# Altium schematic symbol library NCA9535.SchLib: 1 symbol
Pins are listed as number, name and electrical type; pins without a type are passive.

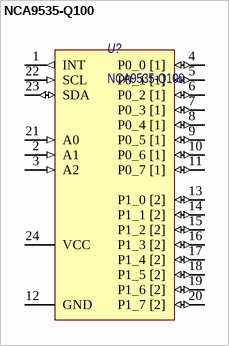
[diagram p0: symbol NCA9535-Q100]

## NCA9535-Q100
designator U?
Low-voltage 16-bit I²C and SMBus low-power I/O expander; Потребление, Вт: 1.0; Наименование: NCA9535-Q100; Назначение: Low-voltage 16-bit I²C and SMBus low-power I/O expander
footprint TSSOP-24
pins: 1 INT (out) "Interrupt output. Connect to VCC through a pull-up resistor", 2 A1 (in) "Address input 1. Connect directly to VCC or GND", 3 A2 (in) "Address input 2. Connect directly to VCC or GND", 4 P0_0 [1] (io) "Parallel port I/O. Push-pull driver. At power on, P0_0 is configured as input", 5 P0_1 [1] (io) "Parallel port I/O. Push-pull driver. At power on, P0_1 is configured as input", 6 P0_2 [1] (io) "Parallel port I/O. Push-pull driver. At power on, P0_2 is configured as input", 7 P0_3 [1] (io) "Parallel port I/O. Push-pull driver. At power on, P0_3 is configured as input", 8 P0_4 [1] (io) "Parallel port I/O. Push-pull driver. At power on, P0_4 is configured as input", 9 P0_5 [1] (io) "Parallel port I/O. Push-pull driver. At power on, P0_5 is configured as input", 10 P0_6 [1] (io) "Parallel port I/O. Push-pull driver. At power on, P0_6 is configured as input", 11 P0_7 [1] (io) "Parallel port I/O. Push-pull driver. At power on, P0_7 is configured as input", 12 GND (power) "Ground", 13 P1_0 [2] (io) "Parallel port I/O. Push-pull driver. At power on, P1_0 is configured as input", 14 P1_1 [2] (io) "Parallel port I/O. Push-pull driver. At power on, P1_1 is configured as input", 15 P1_2 [2] (io) "Parallel port I/O. Push-pull driver. At power on, P1_2 is configured as input", 16 P1_3 [2] (io) "Parallel port I/O. Push-pull driver. At power on, P1_3 is configured as input", 17 P1_4 [2] (io) "Parallel port I/O. Push-pull driver. At power on, P1_4 is configured as input", 18 P1_5 [2] (io) "Parallel port I/O. Push-pull driver. At power on, P1_5 is configured as input", 19 P1_6 [2] (io) "Parallel port I/O. Push-pull driver. At power on, P1_6 is configured as input", 20 P1_7 [2] (io) "Parallel port I/O. Push-pull driver. At power on, P1_7 is configured as input", 21 A0 (in) "Address input 0. Connect directly to VCC or GND", 22 SCL (in) "Serial clock bus. Connect to VCC through a pull-up resistor", 23 SDA (io) "Serial data bus. Connect to VCC through a pull-up resistor.", 24 VCC (power) "Supply voltage."